# EAGLE library part TCA62724FMG (library PX4FMUlite_V0_1)
Toshiba TCA62724FMG I2C RGB LED driver
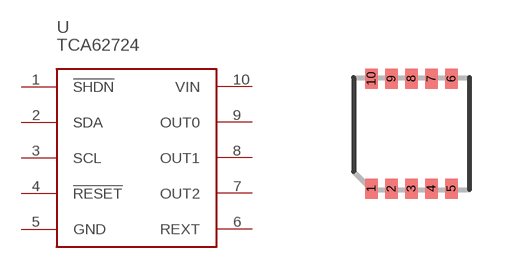
[diagram p19: symbol with the pads of SON10; footprint SON10]

Designator prefix U

## TCA62724FMG  [SON10]
1  !SHDN  in
2  SDA
3  SCL
4  !RESET  in
5  GND  pwr
6  REXT
7  OUT2  oc
8  OUT1  oc
9  OUT0  oc
10  VIN  pwr

## Footprint SON10 (pad centres in mm)
smd 0.32 x 0.5: 1 -1,-1.375; 2 -0.5,-1.375; 3 0,-1.375; 4 0.5,-1.375; 5 1,-1.375; 6 1,1.375; 7 0.5,1.375; 8 0,1.375; 9 -0.5,1.375; 10 -1,1.375